# Altium footprint library Master.PcbLib: 11 footprints
Each footprint in its own frame and in the unit in brackets; x right, y up, seen from the top. Pads: shape width x height; smd on the part's side, far side on the other; paste and mask are expansions set on the pad; w line width, h text height; cw(c..) or ccw(c..) is an arc to the next point about the centre after c.
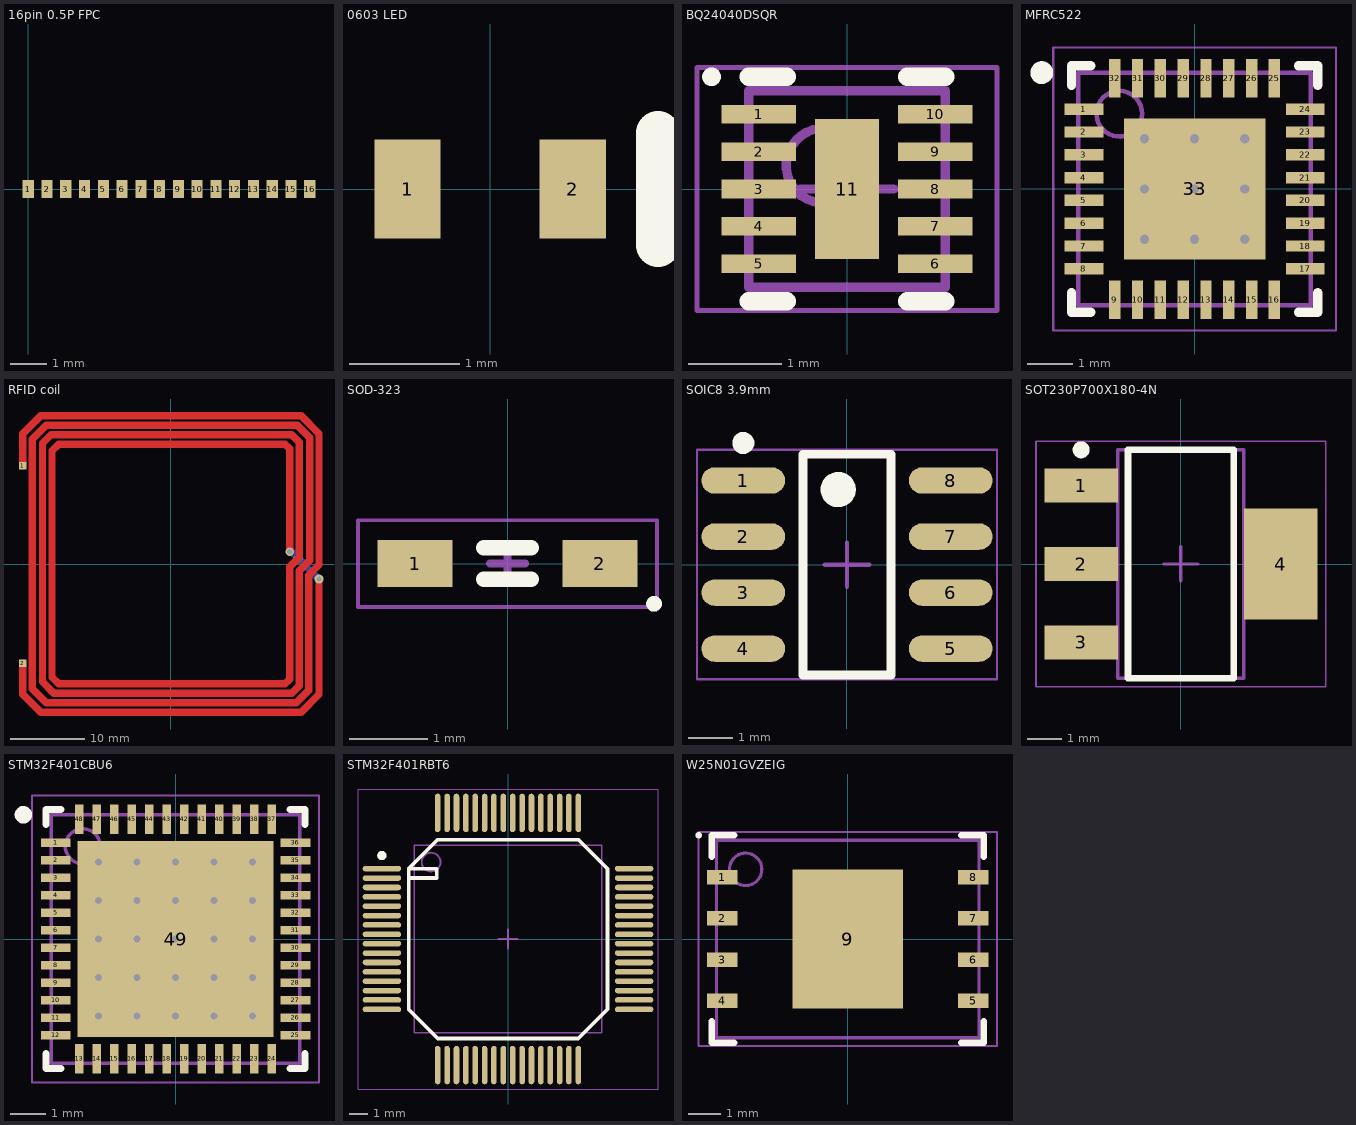
[diagram p0: the footprints below, top view; thin cyan lines are the x and y axes]

## 16pin 0.5P FPC [mm]
pads (16):
  rect 0.3x0.5 smd: 1(0,0) 2(0.508,0) 3(1.016,0) 4(1.524,0) 5(2.032,0) 6(2.54,0) 7(3.048,0) 8(3.556,0) 9(4.064,0) 10(4.572,0) 11(5.08,0) 12(5.588,0) 13(6.096,0) 14(6.604,0) 15(7.112,0) 16(7.62,0)
3D body "AFFC2016050SHTR.STEP": height 2.02, standoff -0.02, extent -2.976,-5.222 10.524,0.178

## 0603 LED [mm]
pads (2):
  rect 0.6x0.9 smd: 1(-0.75,0) 2(0.75,0)
Top Overlay:
  lines w0.4: 1.524,-0.508 1.524,0.508
3D body "User Library-LED SMD0603.STEP": height 0.68, standoff 0, extent -0.843,-0.368 0.807,0.357

## BQ24040DSQR [mm] "SON, 10-Leads, Body 2.00x2.00mm, Pitch 0.40mm, Thermal Pad 1.50x0.69mm, IPC Medium Density"
height 0.8
pads (11):
  rect 0.8x0.2 smd: 1(-0.945,0.8) 2(-0.945,0.4) 3(-0.945,0) 4(-0.945,-0.4) 5(-0.945,-0.8) 6(0.945,-0.8) 7(0.945,-0.4) 8(0.945,0) 9(0.945,0.4) 10(0.945,0.8)
  rect 0.69x1.5 smd: 11(0,0)
Top Overlay:
  circle w0.1: c-1.45,1.2 r0.05
  lines w0.2: -1.05,-1.2 -0.645,-1.2 ; -1.05,1.2 -0.645,1.2 ; 0.645,-1.2 1.05,-1.2 ; 0.645,1.2 1.05,1.2
Mechanical 13:
  circle w0.1: c-0.25,0.25 r0.4
  lines w0.1: -1.05,-1.05 1.05,-1.05 1.05,1.05 -1.05,1.05 -1.05,-1.05
Mechanical 15:
  lines w0.05: -1.605,-1.3 1.605,-1.3 1.605,1.3 -1.605,1.3 -1.605,-1.3
  lines w0.1: -0.5,0 0.5,0 ; 0,-0.5 0,0.5
3D body "SON40P200X80_HS-11N.step": height 0.8, standoff 0, extent -1.051,-1.05 1.051,1.05

## MFRC522 [mm] "QFN, 32-Leads, Body 5.00x5.00mm, Pitch 0.50mm, Thermal Pad 3.10x3.10mm, IPC Medium Density"
height 1
pads (33):
  rect 0.85x0.25 smd: 1(-2.425,1.75) 2(-2.425,1.25) 3(-2.425,0.75) 4(-2.425,0.25) 5(-2.425,-0.25) 6(-2.425,-0.75) 7(-2.425,-1.25) 8(-2.425,-1.75) 17(2.425,-1.75) 18(2.425,-1.25) 19(2.425,-0.75) 20(2.425,-0.25) 21(2.425,0.25) 22(2.425,0.75) 23(2.425,1.25) 24(2.425,1.75)
  rect 0.25x0.85 smd: 9(-1.75,-2.425) 10(-1.25,-2.425) 11(-0.75,-2.425) 12(-0.25,-2.425) 13(0.25,-2.425) 14(0.75,-2.425) 15(1.25,-2.425) 16(1.75,-2.425) 25(1.75,2.425) 26(1.25,2.425) 27(0.75,2.425) 28(0.25,2.425) 29(-0.25,2.425) 30(-0.75,2.425) 31(-1.25,2.425) 32(-1.75,2.425)
  rect 3.1x3.1 smd: 33(0,0)
via 1.1,-1.1 diameter 0.5 hole 0.2
via 0,-1.1 diameter 0.5 hole 0.2
via -1.1,-1.1 diameter 0.5 hole 0.2
via 1.1,0 diameter 0.5 hole 0.2
via 0,0 diameter 0.5 hole 0.2
via -1.1,0 diameter 0.5 hole 0.2
via 1.1,1.1 diameter 0.5 hole 0.2
via 0,1.1 diameter 0.5 hole 0.2
via -1.1,1.1 diameter 0.5 hole 0.2
Top Overlay:
  circle w0.25: c-3.35,2.55 r0.125
  lines w0.2: -2.7,-2.275 -2.7,-2.7 -2.275,-2.7 ; -2.7,2.275 -2.7,2.7 -2.275,2.7 ; 2.275,-2.7 2.7,-2.7 2.7,-2.275 ; 2.275,2.7 2.7,2.7 2.7,2.275
Mechanical 13:
  circle w0.1: c-1.65,1.65 r0.5
  lines w0.1: -2.55,-2.55 2.55,-2.55 2.55,2.55 -2.55,2.55 -2.55,-2.55
Mechanical 15:
  lines w0.05: -3.1,-3.1 3.1,-3.1 3.1,3.1 -3.1,3.1 -3.1,-3.1
  lines w0.1: -0.5,0 0.5,0 ; 0,-0.5 0,0.5
3D body "QFN50P500X500X100_HS-33N.step": height 1, standoff 0, extent -2.551,-2.551 2.551,2.551

## RFID coil [mm]
pads (2):
  rect 1x1 smd mask-1: 1(-19.939,13.208) 2(-19.939,-13.335)
via 19.939,-2.032 diameter 1.2 hole 0.68
via 16.002,1.651 diameter 1.2 hole 0.68
Top Layer:
  lines w1: -19.939,-13.335 -19.939,-17.526 -17.526,-19.939 0,-19.939 17.526,-19.939 19.939,-17.526 19.939,-2.032 ; -19.939,13.208 -19.939,17.526 -17.526,19.939 0,19.939 17.526,19.939 19.939,17.526 19.939,0 19.939,-0.127 18.542,-1.524 18.542,-17.018 16.891,-18.669 -16.764,-18.669 -18.669,-16.764 -18.669,16.764 -16.764,18.669 17.018,18.669 18.669,17.018 18.669,0.508 17.272,-0.889 17.272,-16.383 16.256,-17.399 -15.748,-17.399 -17.272,-15.875 -17.272,16.256 -16.129,17.399 16.256,17.399 17.272,16.383 17.272,1.397 17.272,0.889 16.002,-0.381 16.002,-15.494 15.367,-16.129 -15.113,-16.129 -16.002,-15.24 -16.002,15.24 -15.113,16.129 15.367,16.129 16.002,15.494 16.002,1.651
Bottom Layer:
  lines w1: 16.002,1.651 16.256,1.651 19.939,-2.032

## SOD-323 [mm] "Chip Diode, 2-Leads, Body 2.70x0.45mm, IPC Medium Density"
height 0.6
pads (2):
  rect 0.95x0.6 smd: 1(-1.175,0) 2(1.175,0)
Top Overlay:
  circle w0.1: c1.862,-0.512 r0.05
  lines w0.2: -0.3,-0.2 0.3,-0.2 ; -0.3,0.2 0.3,0.2
Mechanical 15:
  lines w0.05: -1.9,-0.55 -1.9,0.55 1.9,0.55 1.9,-0.55 -1.9,-0.55
  lines w0.1: -0.225,0 0.225,0 ; 0,-0.225 0,0.225
3D body "User Library-SOD323-1.sldprt": height 1.1, standoff 0, extent -1.3,-0.675 1.3,0.675

## SOIC8 3.9mm [mm]
pads (8):
  oval 1.9x0.6 smd: 1(-2.35,1.905) 2(-2.35,0.635) 3(-2.35,-0.635) 4(-2.35,-1.905) 5(2.35,-1.905) 6(2.35,-0.635) 7(2.35,0.635) 8(2.35,1.905)
Top Overlay:
  circle w0.25: c-2.35,2.755 r0.125
  circle w0.4: c-0.2,1.7 r0.2
  lines w0.2: -1,-2.5 -1,2.5 1,2.5 1,-2.5 -1,-2.5
Mechanical 15:
  lines w0.05: -3.4,-2.6 -3.4,2.6 3.4,2.6 3.4,-2.6 -3.4,-2.6
  lines w0.1: -0.5,0 0.5,0 ; 0,-0.5 0,0.5
3D body "User Library-SOIC-8-1.sldprt": height 1.75, standoff 0, extent -3,-2.45 3,2.45

## SOT230P700X180-4N [mm] "SOT223, 4-Leads, Body 6.50x7.00mm (avg), Pitch 2.30mm, IPC Medium Density"
height 1.8
pads (4):
  rect 2.15x1 smd: 1(-2.925,2.3) 2(-2.925,0) 3(-2.925,-2.3)
  rect 2.15x3.25 smd: 4(2.925,0)
Top Overlay:
  circle w0.25: c-2.925,3.35 r0.125
  lines w0.2: -1.55,-3.35 1.55,-3.35 1.55,3.35 -1.55,3.35 -1.55,-3.35
Mechanical 13:
  lines w0.1: -1.85,-3.35 1.85,-3.35 1.85,3.35 -1.85,3.35 -1.85,-3.35
Mechanical 15:
  lines w0.05: -4.25,-3.6 4.25,-3.6 4.25,3.6 -4.25,3.6 -4.25,-3.6
  lines w0.1: -0.5,0 0.5,0 ; 0,-0.5 0,0.5
3D body "SOT230P700X180-4N.step": height 1.8, standoff 0, extent -3.5,-3.35 3.5,3.35

## STM32F401CBU6 [mm] "QFN, 48-Leads, Body 7.00x7.00mm, Pitch 0.50mm, Thermal Pad 5.60x5.60mm, IPC Medium Density"
height 0.6
pads (49):
  rect 0.85x0.25 smd: 1(-3.425,2.75) 2(-3.425,2.25) 3(-3.425,1.75) 4(-3.425,1.25) 5(-3.425,0.75) 6(-3.425,0.25) 7(-3.425,-0.25) 8(-3.425,-0.75) 9(-3.425,-1.25) 10(-3.425,-1.75) 11(-3.425,-2.25) 12(-3.425,-2.75) 25(3.425,-2.75) 26(3.425,-2.25) 27(3.425,-1.75) 28(3.425,-1.25) 29(3.425,-0.75) 30(3.425,-0.25) 31(3.425,0.25) 32(3.425,0.75) 33(3.425,1.25) 34(3.425,1.75) 35(3.425,2.25) 36(3.425,2.75)
  rect 0.25x0.85 smd: 13(-2.75,-3.425) 14(-2.25,-3.425) 15(-1.75,-3.425) 16(-1.25,-3.425) 17(-0.75,-3.425) 18(-0.25,-3.425) 19(0.25,-3.425) 20(0.75,-3.425) 21(1.25,-3.425) 22(1.75,-3.425) 23(2.25,-3.425) 24(2.75,-3.425) 37(2.75,3.425) 38(2.25,3.425) 39(1.75,3.425) 40(1.25,3.425) 41(0.75,3.425) 42(0.25,3.425) 43(-0.25,3.425) 44(-0.75,3.425) 45(-1.25,3.425) 46(-1.75,3.425) 47(-2.25,3.425) 48(-2.75,3.425)
  rect 5.6x5.6 smd: 49(0,0)
via 2.2,-2.2 diameter 0.5 hole 0.2
via 1.1,-2.2 diameter 0.5 hole 0.2
via 0,-2.2 diameter 0.5 hole 0.2
via -1.1,-2.2 diameter 0.5 hole 0.2
via -2.2,-2.2 diameter 0.5 hole 0.2
via 2.2,-1.1 diameter 0.5 hole 0.2
via 1.1,-1.1 diameter 0.5 hole 0.2
via 0,-1.1 diameter 0.5 hole 0.2
via -1.1,-1.1 diameter 0.5 hole 0.2
via -2.2,-1.1 diameter 0.5 hole 0.2
via 2.2,0 diameter 0.5 hole 0.2
via 1.1,0 diameter 0.5 hole 0.2
via 0,0 diameter 0.5 hole 0.2
via -1.1,0 diameter 0.5 hole 0.2
via -2.2,0 diameter 0.5 hole 0.2
via 2.2,1.1 diameter 0.5 hole 0.2
via 1.1,1.1 diameter 0.5 hole 0.2
via 0,1.1 diameter 0.5 hole 0.2
via -1.1,1.1 diameter 0.5 hole 0.2
via -2.2,1.1 diameter 0.5 hole 0.2
via 2.2,2.2 diameter 0.5 hole 0.2
via 1.1,2.2 diameter 0.5 hole 0.2
via 0,2.2 diameter 0.5 hole 0.2
via -1.1,2.2 diameter 0.5 hole 0.2
via -2.2,2.2 diameter 0.5 hole 0.2
Top Overlay:
  circle w0.25: c-4.35,3.55 r0.125
  lines w0.2: -3.7,-3.275 -3.7,-3.7 -3.275,-3.7 ; -3.7,3.275 -3.7,3.7 -3.275,3.7 ; 3.275,-3.7 3.7,-3.7 3.7,-3.275 ; 3.275,3.7 3.7,3.7 3.7,3.275
Mechanical 13:
  circle w0.1: c-2.65,2.65 r0.5
  lines w0.1: -3.55,-3.55 3.55,-3.55 3.55,3.55 -3.55,3.55 -3.55,-3.55
Mechanical 15:
  lines w0.05: -4.1,-4.1 4.1,-4.1 4.1,4.1 -4.1,4.1 -4.1,-4.1
  lines w0.1: -0.5,0 0.5,0 ; 0,-0.5 0,0.5
3D body "QFN50P700X700X60_HS-49N.step": height 0.6, standoff 0, extent -3.6,-3.6 3.6,3.6

## STM32F401RBT6 [mm] "QFP64 0.7mm ptich"
height 1.6
pads (64):
  oval 2.05x0.3 smd: 1(-6.725,3.75) 2(-6.725,3.25) 3(-6.725,2.75) 4(-6.725,2.25) 5(-6.725,1.75) 6(-6.725,1.25) 7(-6.725,0.75) 8(-6.725,0.25) 9(-6.725,-0.25) 10(-6.725,-0.75) 11(-6.725,-1.25) 12(-6.725,-1.75) 13(-6.725,-2.25) 14(-6.725,-2.75) 15(-6.725,-3.25) 16(-6.725,-3.75) 33(6.725,-3.75) 34(6.725,-3.25) 35(6.725,-2.75) 36(6.725,-2.25) 37(6.725,-1.75) 38(6.725,-1.25) 39(6.725,-0.75) 40(6.725,-0.25) 41(6.725,0.25) 42(6.725,0.75) 43(6.725,1.25) 44(6.725,1.75) 45(6.725,2.25) 46(6.725,2.75) 47(6.725,3.25) 48(6.725,3.75)
  oval 0.3x2.05 smd: 17(-3.75,-6.725) 18(-3.25,-6.725) 19(-2.75,-6.725) 20(-2.25,-6.725) 21(-1.75,-6.725) 22(-1.25,-6.725) 23(-0.75,-6.725) 24(-0.25,-6.725) 25(0.25,-6.725) 26(0.75,-6.725) 27(1.25,-6.725) 28(1.75,-6.725) 29(2.25,-6.725) 30(2.75,-6.725) 31(3.25,-6.725) 32(3.75,-6.725) 49(3.75,6.725) 50(3.25,6.725) 51(2.75,6.725) 52(2.25,6.725) 53(1.75,6.725) 54(1.25,6.725) 55(0.75,6.725) 56(0.25,6.725) 57(-0.25,6.725) 58(-0.75,6.725) 59(-1.25,6.725) 60(-1.75,6.725) 61(-2.25,6.725) 62(-2.75,6.725) 63(-3.25,6.725) 64(-3.75,6.725)
Top Overlay:
  circle w0.25: c-6.725,4.45 r0.125
  lines w0.2: -5.3,3.25 -3.8,3.25 -3.8,3.75 -5.3,3.75 ; -5.3,3.75 -5.3,-3.75 -3.75,-5.3 3.75,-5.3 5.3,-3.75 5.3,3.75 3.75,5.3 -3.75,5.3 -5.3,3.75
Mechanical 13:
  circle w0.1: c-4.1,4.1 r0.5
  lines w0.1: -5,-5 -5,5 5,5 5,-5 -5,-5
Mechanical 15:
  lines w0.05: -8,-8 -8,8 8,8 8,-8 -8,-8
  lines w0.1: -0.5,0 0.5,0 ; 0,-0.5 0,0.5
3D body "CQFP127P600-8N.step": height 1.55, standoff 0, extent -7.35,-7.35 7.35,7.35

## W25N01GVZEIG [mm] "SON, 8-Leads, Body 6.00x8.00mm, Pitch 1.27mm, Thermal Pad 4.30x3.40mm, IPC Medium Density"
height 0.8
pads (9):
  rect 0.95x0.45 smd: 1(-3.87,1.905) 2(-3.87,0.635) 3(-3.87,-0.635) 4(-3.87,-1.905) 5(3.87,-1.905) 6(3.87,-0.635) 7(3.87,0.635) 8(3.87,1.905)
  rect 3.4x4.3 smd paste-1.7: 9(0,0)
Top Overlay:
  circle w0.1: c-4.6,3.2 r0.05
  lines w0.2: -4.2,-2.53 -4.2,-3.2 -3.495,-3.2 ; -4.2,2.53 -4.2,3.2 -3.495,3.2 ; 3.495,-3.2 4.2,-3.2 4.2,-2.53 ; 3.495,3.2 4.2,3.2 4.2,2.53
Top Paste:
  rectangle: -1.595,0.815 -0.665,2.045
  rectangle: -1.595,-0.615 -0.665,0.615
  rectangle: -1.595,-2.045 -0.665,-0.815
  rectangle: -0.465,0.815 0.465,2.045
  rectangle: -0.465,-0.615 0.465,0.615
  rectangle: -0.465,-2.045 0.465,-0.815
  rectangle: 0.665,0.815 1.595,2.045
  rectangle: 0.665,-0.615 1.595,0.615
  rectangle: 0.665,-2.045 1.595,-0.815
Mechanical 13:
  circle w0.1: c-3.15,2.15 r0.5
  lines w0.1: -4.05,-3.05 -4.05,3.05 4.05,3.05 4.05,-3.05 -4.05,-3.05
Mechanical 15:
  lines w0.05: -4.605,-3.3 -4.605,3.3 4.605,3.3 4.605,-3.3 -4.605,-3.3
  lines w0.1: -0.5,0 0.5,0 ; 0,-0.5 0,0.5
3D body "SON127P800X80_HS-9N.step": height 0.8, standoff 0, extent -4.051,-3.05 4.051,3.05